# EAGLE library part 8PIN (library nintendo-classic)
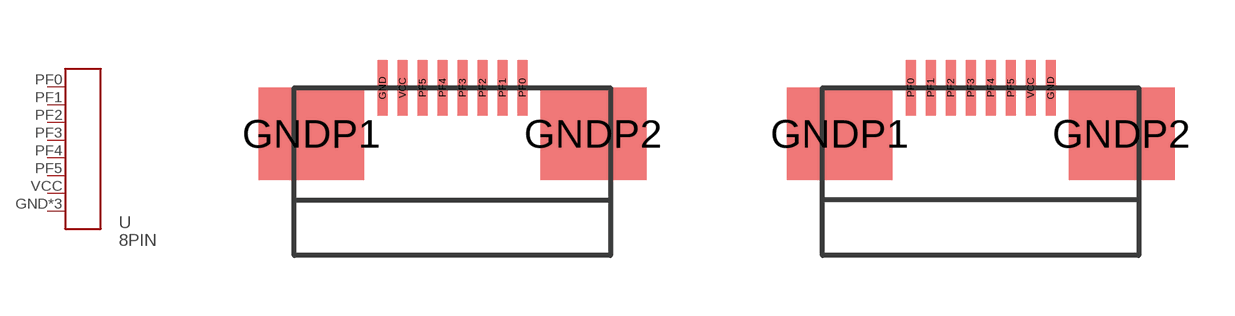
[diagram p0: symbol with the pads of SFV8R-3STBE1HLF; footprints SFV8R-3STBE1HLF, SFV8R-3STBE1HLF-REVERSED]

Designator prefix -

## 8PIN  [SFV8R-3STBE1HLF]
GND  GND
GNDP1  GND
GNDP2  GND
PF0  PF0
PF1  PF1
PF2  PF2
PF3  PF3
PF4  PF4
PF5  PF5
VCC  VCC

## 8PINREVERSED  [SFV8R-3STBE1HLF-REVERSED]
Pads as for SFV8R-3STBE1HLF

## Footprint SFV8R-3STBE1HLF (pad centres in mm)
XF2L 0.5mm pitch 8 pins, ZIF Single-LockingConnector (omrom) store: Digi-Key http://digikey.com/jp/digihome.html
smd 0.25 x 1.4: GND -1.75,2.15; PF0 1.75,2.15; PF1 1.25,2.15; PF2 0.75,2.15; PF3 0.25,2.15; PF4 -0.25,2.15; PF5 -0.75,2.15; VCC -1.25,2.15
smd 2.65 x 2.3: GNDP1 -3.525,1; GNDP2 3.525,1

## Footprint SFV8R-3STBE1HLF-REVERSED (pad centres in mm)
XF2L 0.5mm pitch 8 pins, ZIF Single-LockingConnector (omrom) store: Digi-Key http://digikey.com/jp/digihome.html
smd 0.25 x 1.4: GND 1.75,2.15; PF0 -1.75,2.15; PF1 -1.25,2.15; PF2 -0.75,2.15; PF3 -0.25,2.15; PF4 0.25,2.15; PF5 0.75,2.15; VCC 1.25,2.15
smd 2.65 x 2.3: GNDP1 -3.525,1; GNDP2 3.525,1